# Altium footprint library 集成接线头.PcbLib: 105 footprints (part 1 of 7)
Each footprint in its own frame and in the unit in brackets; x right, y up, seen from the top. Pads: shape width x height; smd on the part's side, far side on the other; paste and mask are expansions set on the pad; w line width, h text height; cw(c..) or ccw(c..) is an arc to the next point about the centre after c.
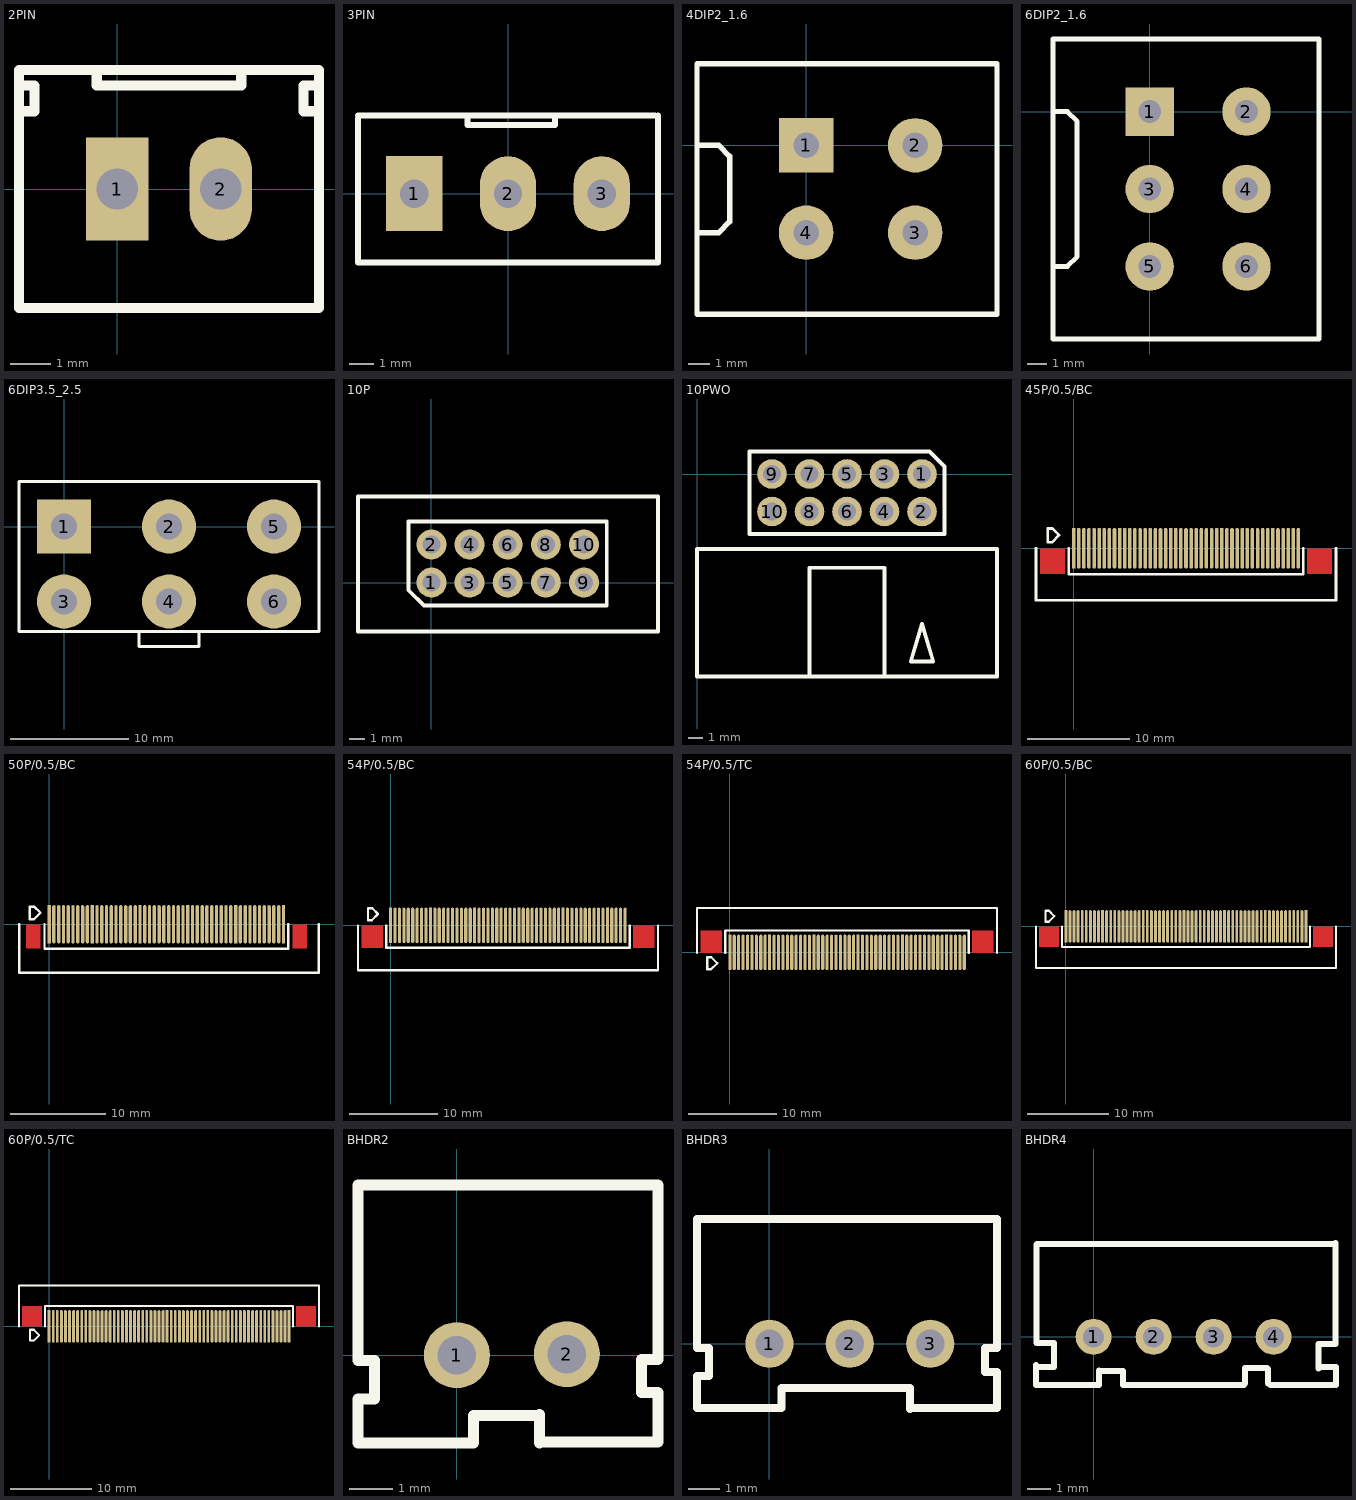
[diagram p0: the footprints below, top view; thin cyan lines are the x and y axes]

## 2PIN [mil]
pads (2):
  rect 60x100 hole 40: 1(0,0)
  oval 60x100 hole 40: 2(100,0)
Top Overlay:
  lines w10: -95,75 -80,75 -80,100 -95,100 ; -20,115 -20,100 120,100 120,115 ; 135,-115 195,-115 ; 195,75 180,75 180,100 195,100 ; 195,-115 195,115 -95,115 -95,-115 195,-115

## 3PIN [mil]
pads (3):
  rect 90x120 hole 45: 1(-150,0)
  oval 90x120 hole 45: 2(0,0) 3(150,0)
Top Overlay:
  lines w10: -240,120 -240,-110 240,-110 ; -240,125 235,125 ; -65,125 -65,110 75,110 75,125 ; -10,-110 240,-110 ; 240,125 240,-110

## 4DIP2_1.6 [mil]
pads (4):
  rect 100x100 hole 47: 1(0,0)
  round 100 hole 47: 2(200,0) 3(200,-160) 4(0,-160)
Top Overlay:
  lines w10: -200,-160 -160,-160 -140,-140 -140,-20 -160,0 -200,0 ; -200,-310 -200,150 350,150 350,-310 -200,-310

## 6DIP2_1.6 [mil]
pads (6):
  rect 100x100 hole 47: 1(0,0)
  round 100 hole 47: 2(200,0) 3(0,-160) 4(200,-160) 5(0,-320) 6(200,-320)
Top Overlay:
  lines w10: -200,-320 -170,-320 -150,-300 -150,-20 -170,0 -200,0 ; -200,-470 -150,-470 350,-470 350,150 -150,150 -200,150 -200,-470

## 6DIP3.5_2.5 [mil]
pads (6):
  rect 180x180 hole 88: 1(0,0)
  round 180 hole 88: 2(350,0) 3(0,-250) 4(350,-250) 5(700,0) 6(700,-250)
Top Overlay:
  lines w10: 250,-350 250,-400 450,-400 450,-350 ; 350,150 -150,150 ; -150,150 850,150 850,-350 -150,-350 -150,150

## 10P [mm]
pads (10):
  round 2 hole 1.2: 1(0,0) 2(0,2.54) 3(2.54,0) 4(2.54,2.54) 5(5.08,0) 6(5.08,2.54) 7(7.62,0) 8(7.62,2.54) 9(10.16,0) 10(10.16,2.54)
Top Overlay:
  lines w0.254: -4.9,-3.26 15.1,-3.26 15.1,5.74 -4.9,5.74 -4.9,-3.26 ; -1.524,-0.508 -0.508,-1.524 11.684,-1.524 11.684,4.064 -1.524,4.064 -1.524,-0.508

## 10PWO [mm]
pads (10):
  round 2 hole 1.2: 1(15.24,0) 2(15.24,-2.54) 3(12.7,0) 4(12.7,-2.54) 5(10.16,0) 6(10.16,-2.54) 7(7.62,0) 8(7.62,-2.54) 9(5.08,0) 10(5.08,-2.54)
Top Overlay:
  lines w0.254: 7.62,-13.716 7.62,-6.35 12.7,-6.35 12.7,-13.716 ; 0,-5.08 20.32,-5.08 ; 0,-5.08 20.32,-5.08 ; 0,-5.08 0,-13.716 20.32,-13.716 20.32,-5.08 ; 3.556,-4.064 16.764,-4.064 16.764,0.508 15.748,1.524 3.556,1.524 3.556,-4.064 ; 14.478,-12.7 15.24,-10.16 16.002,-12.7 14.478,-12.7

## 45P/0.5/BC [mm]
pads (45):
  rect 0.35x4 smd: 1(0,0) 10(4.5,0) 20(9.5,0) 30(14.5,0) 40(19.5,0)
  oval 0.35x4 smd: 2(0.5,0) 3(1,0) 4(1.5,0) 5(2,0) 6(2.5,0) 7(3,0) 8(3.5,0) 9(4,0) 11(5,0) 12(5.5,0) 13(6,0) 14(6.5,0) 15(7,0) 16(7.5,0) 17(8,0) 18(8.5,0) 19(9,0) 21(10,0) 22(10.5,0) 23(11,0) 24(11.5,0) 25(12,0) 26(12.5,0) 27(13,0) 28(13.5,0) 29(14,0) 31(15,0) 32(15.5,0) 33(16,0) 34(16.5,0) 35(17,0) 36(17.5,0) 37(18,0) 38(18.5,0) 39(19,0) 41(20,0) 42(20.5,0) 43(21,0) 44(21.5,0) 45(22,0)
Top Layer:
  region: -0.838,0 -3.302,0 -3.302,-2.54 -0.838,-2.54
  region: 25.298,0 22.835,0 22.835,-2.54 25.298,-2.54
Top Overlay:
  lines w0.254: -3.683,0 -3.683,-4.775 -3.683,-5.08 25.679,-5.08 25.679,0 ; -2.54,1.869 -2.54,1.93 ; -0.483,0 -0.483,-2.54 22.479,-2.54 22.479,0 ; -2.54,1.93 -2.54,0.584 -2.119,0.584 -1.428,1.275 -2.083,1.93 -2.54,1.93
Top Solder:
  region: -0.838,0 -3.302,0 -3.302,-2.54 -0.838,-2.54
  region: 25.298,0 22.835,0 22.835,-2.54 25.298,-2.54

## 50P/0.5/BC [mm]
pads (50):
  rect 0.35x4 smd: 1(0,0) 10(4.5,0) 20(9.5,0) 30(14.5,0) 40(19.5,0) 50(24.5,0)
  oval 0.35x4 smd: 2(0.5,0) 3(1,0) 4(1.5,0) 5(2,0) 6(2.5,0) 7(3,0) 8(3.5,0) 9(4,0) 11(5,0) 12(5.5,0) 13(6,0) 14(6.5,0) 15(7,0) 16(7.5,0) 17(8,0) 18(8.5,0) 19(9,0) 21(10,0) 22(10.5,0) 23(11,0) 24(11.5,0) 25(12,0) 26(12.5,0) 27(13,0) 28(13.5,0) 29(14,0) 31(15,0) 32(15.5,0) 33(16,0) 34(16.5,0) 35(17,0) 36(17.5,0) 37(18,0) 38(18.5,0) 39(19,0) 41(20,0) 42(20.5,0) 43(21,0) 44(21.5,0) 45(22,0) 46(22.5,0) 47(23,0) 48(23.5,0) 49(24,0)
Top Layer:
  region: 26.975,0 25.451,0 25.451,-2.54 26.975,-2.54
  region: -0.914,0 -2.438,0 -2.438,-2.54 -0.914,-2.54
Top Overlay:
  lines w0.254: -3.15,-5.055 28.219,-5.08 ; -3.124,-5.055 -3.124,0 ; -2.032,1.793 -2.032,1.854 ; -0.483,0 -0.483,-2.54 25.019,-2.54 ; 25.015,-2.54 25.015,0 ; 28.216,-5.08 28.216,0 ; -2.032,1.854 -2.032,0.508 -1.611,0.508 -0.92,1.199 -1.575,1.854 -2.032,1.854
Top Solder:
  region: 27.026,0.051 25.4,0.051 25.4,-2.591 27.026,-2.591
  region: -0.864,0.051 -2.489,0.051 -2.489,-2.591 -0.864,-2.591

## 54P/0.5/BC [mm]
pads (54):
  rect 0.35x4 smd: 1(0,0) 10(4.5,0) 20(9.5,0) 30(14.5,0) 40(19.5,0) 50(24.5,0)
  oval 0.35x4 smd: 2(0.5,0) 3(1,0) 4(1.5,0) 5(2,0) 6(2.5,0) 7(3,0) 8(3.5,0) 9(4,0) 11(5,0) 12(5.5,0) 13(6,0) 14(6.5,0) 15(7,0) 16(7.5,0) 17(8,0) 18(8.5,0) 19(9,0) 21(10,0) 22(10.5,0) 23(11,0) 24(11.5,0) 25(12,0) 26(12.5,0) 27(13,0) 28(13.5,0) 29(14,0) 31(15,0) 32(15.5,0) 33(16,0) 34(16.5,0) 35(17,0) 36(17.5,0) 37(18,0) 38(18.5,0) 39(19,0) 41(20,0) 42(20.5,0) 43(21,0) 44(21.5,0) 45(22,0) 46(22.5,0) 47(23,0) 48(23.5,0) 49(24,0) 51(25,0) 52(25.5,0) 53(26,0) 54(26.5,0)
Top Layer:
  region: -0.838,0 -3.302,0 -3.302,-2.54 -0.838,-2.54
  region: 29.845,0 27.381,0 27.381,-2.54 29.845,-2.54
Top Overlay:
  lines w0.254: -3.683,0 -3.683,-4.775 -3.683,-5.08 30.226,-5.08 30.226,0 ; -2.54,1.869 -2.54,1.93 ; -0.483,0 -0.483,-2.54 27.026,-2.54 27.026,0 ; -2.54,1.93 -2.54,0.584 -2.119,0.584 -1.428,1.275 -2.083,1.93 -2.54,1.93
Top Solder:
  region: -0.838,0 -3.302,0 -3.302,-2.54 -0.838,-2.54
  region: 29.845,0 27.381,0 27.381,-2.54 29.845,-2.54

## 54P/0.5/TC [mm]
pads (54):
  rect 0.35x4 smd: 1(0,0) 10(4.5,0) 20(9.5,0) 30(14.5,0) 40(19.5,0) 50(24.5,0)
  oval 0.35x4 smd: 2(0.5,0) 3(1,0) 4(1.5,0) 5(2,0) 6(2.5,0) 7(3,0) 8(3.5,0) 9(4,0) 11(5,0) 12(5.5,0) 13(6,0) 14(6.5,0) 15(7,0) 16(7.5,0) 17(8,0) 18(8.5,0) 19(9,0) 21(10,0) 22(10.5,0) 23(11,0) 24(11.5,0) 25(12,0) 26(12.5,0) 27(13,0) 28(13.5,0) 29(14,0) 31(15,0) 32(15.5,0) 33(16,0) 34(16.5,0) 35(17,0) 36(17.5,0) 37(18,0) 38(18.5,0) 39(19,0) 41(20,0) 42(20.5,0) 43(21,0) 44(21.5,0) 45(22,0) 46(22.5,0) 47(23,0) 48(23.5,0) 49(24,0) 51(25,0) 52(25.5,0) 53(26,0) 54(26.5,0)
Top Layer:
  rectangle: -3.327,-0.051 -0.864,2.489
  rectangle: 27.356,-0.051 29.82,2.489
Top Overlay:
  lines w0.254: -3.708,-0.051 -3.708,5.029 30.201,5.029 30.201,4.724 30.201,-0.051 ; -2.54,-0.62 -2.54,-0.559 ; -0.508,-0.051 -0.508,2.489 27,2.489 27,-0.051 ; -2.54,-0.559 -2.083,-0.559 -1.428,-1.214 -2.119,-1.905 -2.54,-1.905 -2.54,-0.559
Top Solder:
  rectangle: -3.327,-0.051 -0.864,2.489
  rectangle: 27.356,-0.051 29.82,2.489

## 60P/0.5/BC [mm]
pads (60):
  rect 0.35x4 smd: 1(0,0) 10(4.5,0) 20(9.5,0) 30(14.503,0) 40(19.503,0) 50(24.503,0) 60(29.503,0)
  oval 0.35x4 smd: 2(0.5,0) 3(1,0) 4(1.5,0) 5(2,0) 6(2.5,0) 7(3,0) 8(3.5,0) 9(4,0) 11(5,0) 12(5.5,0) 13(6,0) 14(6.5,0) 15(7,0) 16(7.5,0) 17(8,0) 18(8.5,0) 19(9,0) 21(10,0) 22(10.5,0) 23(11,0) 24(11.5,0) 25(12,0) 26(12.5,0) 27(13,0) 28(13.5,0) 29(14,0) 31(15.003,0) 32(15.503,0) 33(16.003,0) 34(16.503,0) 35(17.003,0) 36(17.503,0) 37(18.003,0) 38(18.503,0) 39(19.003,0) 41(20.003,0) 42(20.503,0) 43(21.003,0) 44(21.503,0) 45(22.003,0) 46(22.503,0) 47(23.003,0) 48(23.503,0) 49(24.003,0) 51(25.003,0) 52(25.503,0) 53(26.003,0) 54(26.503,0) 55(27.003,0) 56(27.503,0) 57(28.003,0) 58(28.503,0) 59(29.003,0)
Top Layer:
  region: -0.838,0 -3.302,0 -3.302,-2.54 -0.838,-2.54
  region: 32.816,0 30.353,0 30.353,-2.54 32.816,-2.54
Top Overlay:
  lines w0.254: -3.683,0 -3.683,-4.775 -3.683,-5.08 33.198,-5.08 33.197,0 ; -2.54,1.869 -2.54,1.93 ; -0.483,0 -0.483,-2.54 29.997,-2.54 29.997,0 ; -2.54,1.93 -2.54,0.584 -2.119,0.584 -1.428,1.275 -2.083,1.93 -2.54,1.93
Top Solder:
  region: -0.838,0 -3.302,0 -3.302,-2.54 -0.838,-2.54
  region: 32.816,0 30.353,0 30.353,-2.54 32.816,-2.54

## 60P/0.5/TC [mm]
pads (60):
  rect 0.35x4 smd: 1(0,0) 10(4.5,0) 20(9.5,0) 30(14.503,0) 40(19.503,0) 50(24.503,0) 60(29.503,0)
  oval 0.35x4 smd: 2(0.5,0) 3(1,0) 4(1.5,0) 5(2,0) 6(2.5,0) 7(3,0) 8(3.5,0) 9(4,0) 11(5,0) 12(5.5,0) 13(6,0) 14(6.5,0) 15(7,0) 16(7.5,0) 17(8,0) 18(8.5,0) 19(9,0) 21(10,0) 22(10.5,0) 23(11,0) 24(11.5,0) 25(12,0) 26(12.5,0) 27(13,0) 28(13.5,0) 29(14,0) 31(15.003,0) 32(15.503,0) 33(16.003,0) 34(16.503,0) 35(17.003,0) 36(17.503,0) 37(18.003,0) 38(18.503,0) 39(19.003,0) 41(20.003,0) 42(20.503,0) 43(21.003,0) 44(21.503,0) 45(22.003,0) 46(22.503,0) 47(23.003,0) 48(23.503,0) 49(24.003,0) 51(25.003,0) 52(25.503,0) 53(26.003,0) 54(26.503,0) 55(27.003,0) 56(27.503,0) 57(28.003,0) 58(28.503,0) 59(29.003,0)
Top Layer:
  rectangle: -3.327,-0.025 -0.863,2.515
  rectangle: 30.328,-0.025 32.791,2.515
Top Overlay:
  lines w0.254: -3.708,-0.025 -3.708,5.055 33.172,5.055 33.172,4.75 33.172,-0.025 ; -0.508,-0.025 -0.508,2.515 29.972,2.515 29.972,-0.025 ; -2.337,-1.753 -1.916,-1.753 -1.225,-1.061 -1.88,-0.406 -2.337,-0.406 -2.337,-1.753
Top Solder:
  rectangle: -3.327,-0.025 -0.863,2.515
  rectangle: 30.328,-0.025 32.791,2.515

## BHDR2 [mil]
pads (2):
  round 60 hole 35: 1(0,0) 2(100,1)
Top Overlay:
  lines w10: 75,-55 15,-55 15,-80 -90,-80 -90,-40 -75,-40 -75,-30 -75,-5 -90,-5 -90,155 183,155 183,-4 ; 75,-54 75,-80 76,-79 132,-79 ; 134,-79 95,-79 183,-79 183,-34 168,-34 168,-4 183,-4 ; 183,11 183,-4

## BHDR3 [mil]
pads (3):
  round 60 hole 35: 1(0,0) 2(100,0) 3(200,0)
Top Overlay:
  lines w10: 58,-55 158,-55 ; 85,-55 15,-55 15,-80 -90,-80 -90,-40 -75,-40 -75,-30 -75,-5 -90,-5 -90,155 195,155 283,155 283,-5 ; 124,-55 175,-55 175,-81 176,-80 232,-80 ; 234,-80 195,-80 283,-80 283,-35 268,-35 268,-5 283,-5 ; 283,10 283,-5

## BHDR4 [mil]
pads (4):
  round 60 hole 35: 1(0,0) 2(100,0) 3(200,0) 4(300,0)
Top Overlay:
  lines w10: -96,-50 -66,-50 -66,-10 -95,-10 -95,134 ; -96,-47 -96,-80 ; -95,-79 -96,-80 ; -95,103 -95,154 -94,155 -31,155 ; -73,155 93,155 364,155 ; 200,-80 248,-80 ; 251,-80 49,-80 49,-57 10,-57 9,-56 9,-80 -96,-80 ; 252,-78 252,-52 289,-52 291,-54 291,-78 ; 294,155 401,155 ; 295,-80 400,-80 ; 375,-53 375,-12 403,-12 403,156 ; 375,-50 404,-50 404,-80